# Altium footprint library new-version.PcbLib: 241 footprints (part 11 of 16)
Each footprint in its own frame and in the unit in brackets; x right, y up, seen from the top. Pads: shape width x height; smd on the part's side, far side on the other; paste and mask are expansions set on the pad; w line width, h text height; cw(c..) or ccw(c..) is an arc to the next point about the centre after c.
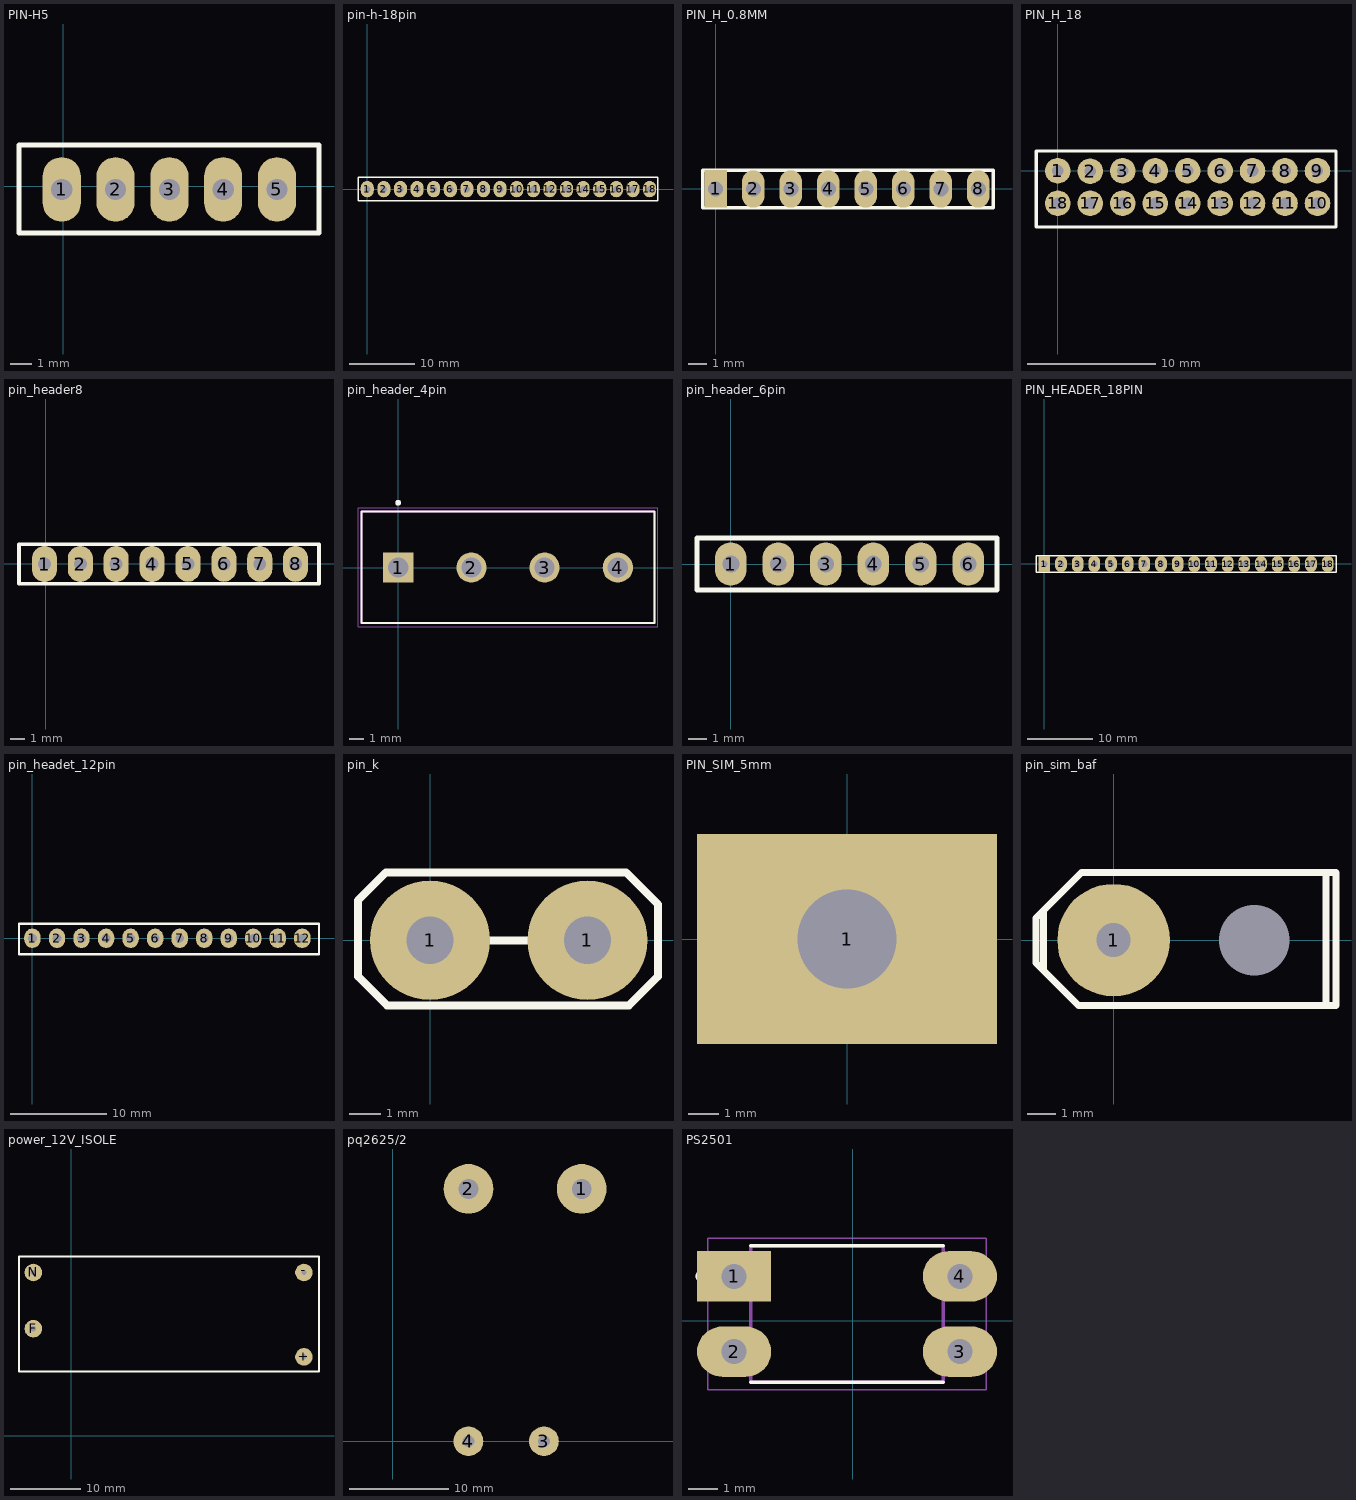
[diagram p10: the footprints below, top view; thin cyan lines are the x and y axes]

## PIN-H5 [mm]
pads (5):
  oval 1.8x3.048 hole 1: 1(-0.076,-0.143) 2(2.464,-0.143) 3(5.004,-0.143) 4(7.544,-0.143) 5(10.084,-0.143)
Top Overlay:
  lines w0.254: -2.094,-2.197 -2.094,1.952 12.068,1.952 12.068,-2.197 -2.094,-2.197

## pin-h-18pin [mm]
pads (18):
  oval 2x2.5 hole 1: 1(0,0) 2(2.54,0) 3(5.08,0) 4(7.62,0) 5(10.16,0) 6(12.7,0) 7(15.24,0) 8(17.78,0) 9(20.32,0) 10(22.86,0) 11(25.4,0) 12(27.94,0) 13(30.48,0) 14(33.02,0) 15(35.56,0) 16(38.1,0) 17(40.64,0) 18(43.18,0)
Top Overlay:
  lines w0.2: -1.413,-1.763 -1.413,1.798 44.466,1.798 44.466,-1.763 -1.413,-1.763

## PIN_H_0.8MM [mm]
pads (8):
  rect 1.2x2 hole 0.8: 1(0,0)
  oval 1.2x2 hole 0.8: 2(2,0) 3(4,0) 4(6,0) 5(8,0) 6(10,0) 7(12,0) 8(14,0)
Top Overlay:
  lines w0.2: -0.7,-1 14.8,-1 14.8,1 -0.7,1 -0.7,0 -0.7,-1

## PIN_H_18 [mm]
pads (18):
  round 2 hole 0.9: 1(0,0) 2(2.54,-0.025) 3(5.08,0) 4(7.62,0) 5(10.16,0) 6(12.7,0) 7(15.24,0) 8(17.78,0) 9(20.32,0) 10(20.32,-2.54) 11(17.78,-2.54) 12(15.24,-2.54) 13(12.7,-2.54) 14(10.16,-2.54) 15(7.62,-2.54) 16(5.08,-2.54) 17(2.54,-2.54) 18(0,-2.54)
Top Overlay:
  lines w0.254: -1.702,-4.394 21.768,-4.394 21.768,1.549 -1.702,1.549 -1.676,1.524 -1.676,-4.369 -1.702,-4.394

## pin_header8 [mil]
pads (8):
  oval 70x100 hole 36: 1(-3.33,-0.39) 2(96.67,-0.39) 3(196.68,-0.39) 4(296.68,-0.39) 5(396.69,0) 6(497.44,-0.01) 7(597.44,0) 8(697.44,0)
Top Overlay:
  lines w10: -74.56,-55.39 -74.56,54.61 762.85,54.61 762.85,-55.39 -74.56,-55.39

## pin_header_4pin [mm]
pads (4):
  rect 2.1x2.1 hole 1.4: 1(0,0)
  round 2.1 hole 1.4: 2(5.08,0) 3(10.16,0) 4(15.24,0)
Top Overlay:
  circle w0.2: c0,4.5 r0.1
  lines w0.127: -2.54,-3.85 17.78,-3.85 17.78,3.9 -2.54,3.9 -2.54,-3.85
Mechanical 13:
  circle w0.2: c0,4.5 r0.1
  lines w0.127: -2.54,-3.85 17.78,-3.85 17.78,3.9 -2.54,3.9 -2.54,-3.85
Mechanical 15:
  lines w0.05: -2.79,-4.1 18.03,-4.1 18.03,4.15 -2.79,4.15 -2.79,-4.1
3D body "282825-4--3DModel-STEP-1.STEP": height 12.7, standoff -3.3, extent -2.667,-3.937 17.653,4.413

## pin_header_6pin [mm]
pads (6):
  oval 1.7x2.3 hole 0.9: 1(0,0) 2(2.54,0) 3(5.08,0) 4(7.62,0) 5(10.16,0) 6(12.7,0)
Top Overlay:
  lines w0.254: -1.81,-1.397 14.233,-1.397 14.233,1.397 -1.81,1.397 -1.81,-1.397

## PIN_HEADER_18PIN [mm]
pads (18):
  rect 1.8x2.5 hole 0.9: 1(-0.015,-0.068)
  oval 1.8x2.5 hole 0.9: 2(2.525,-0.068) 3(5.065,-0.068) 4(7.605,-0.068) 5(10.145,-0.068) 6(12.685,-0.068) 7(15.225,-0.068) 8(17.765,-0.068) 9(20.305,-0.068) 10(22.845,-0.068) 11(25.385,-0.068) 12(27.925,-0.068) 13(30.465,-0.068) 14(33.005,-0.068) 15(35.545,-0.068) 16(38.085,-0.068) 17(40.625,-0.068) 18(43.165,-0.068)
Top Overlay:
  lines w0.2: -1.285,-1.338 44.435,-1.338 44.435,1.202 0.62,1.202 -1.285,1.202 -1.285,-1.338

## pin_headet_12pin [mm]
pads (13):
  oval 1.7x2 hole 0.9: 1(0,0) 1(0,0) 2(2.54,0) 3(5.08,0) 4(7.62,0) 5(10.16,0) 6(12.7,0) 7(15.24,0) 8(17.78,0) 9(20.32,0) 10(22.86,0) 11(25.4,0) 12(27.94,0)
Top Overlay:
  lines w0.254: -1.393,-1.658 29.665,-1.658 29.665,1.509 29.245,1.509 -1.393,1.509 -1.393,-1.658

## pin_k [mm]
pads (2):
  round 3.8 hole 1.5: 1(0,0) 1(5,0)
Top Overlay:
  lines w0.254: 0,0 5.207,0 ; -2.286,-1.143 -2.286,-0.095 -2.286,0.222 -2.286,1.27 -1.403,2.153 0.629,2.153 4.197,2.153 6.229,2.153 7.239,1.143 7.239,0.476 7.239,-0.349 7.239,-1.143 6.311,-2.071 -1.358,-2.071 -2.286,-1.143
3D body "pin_kolery_v1.stp": height 8.52, standoff -4.48, extent -0.46,-0.173 5.54,0.127

## PIN_SIM_5mm [mm]
pads (1):
  rect 10x7 hole 3.3: 1(0,0)

## pin_sim_baf [mm]
pads (2):
  round 4 hole 1.2: 1(0,0)
  round 0 hole 2.5: 7(5,0)
Top Overlay:
  lines w0.254: -2.492,-1.078 -2.492,1.039 ; 7.548,-2.313 7.548,2.319 ; -2.757,-0.813 -1.243,-2.327 7.901,-2.327 7.901,2.406 -1.14,2.406 -2.757,0.789 -2.757,-0.813

## power_12V_ISOLE [mm]
pads (4):
  round 2.5 hole 0.762: +(33.106,11.24) -(33.106,23.24) F(-5.394,15.24) N(-5.394,23.24)
Top Overlay:
  lines w0.254: -6.283,25.527 35.246,25.527 35.246,9.144 -7.426,9.144 -7.426,25.527 -6.156,25.527

## PQ2625 [mm]

## pq2625/2 [mm]
pads (4):
  round 5 hole 2: 1(19,25.4) 2(7.6,25.4)
  round 3 hole 1.2: 3(15.2,0) 4(7.6,0)
Bottom Overlay:
  lines w0.254: -1.956,-2.286 25.121,-2.286 25.121,25.578 23.234,27.464 -1.956,27.464 -1.956,-2.286

## PS2501 [mm]
pads (4):
  rect 2.5x1.7 hole 0.84: 1(-4.011,1.49)
  oval 2.5x1.7 hole 0.84: 2(-4.011,-1.05) 3(3.609,-1.05) 4(3.609,1.49)
Top Overlay:
  circle w0.2: c-5.111,1.49 r0.1
  lines w0.127: -3.451,-2.08 3.049,-2.08 ; -3.451,2.52 3.049,2.52
Mechanical 13:
  circle w0.2: c-5.111,1.49 r0.1
  lines w0.127: -3.451,-2.08 -3.451,2.52 3.049,2.52 3.049,-2.08 -3.451,-2.08
Mechanical 15:
  lines w0.05: -4.901,-2.33 -4.901,2.77 4.499,2.77 4.499,-2.33 -4.901,-2.33